# Altium footprint library Connector_Wire.PcbLib: 290 footprints (part 15 of 19)
Each footprint in its own frame and in the unit in brackets; x right, y up, seen from the top. Pads: shape width x height; smd on the part's side, far side on the other; paste and mask are expansions set on the pad; w line width, h text height; cw(c..) or ccw(c..) is an arc to the next point about the centre after c.
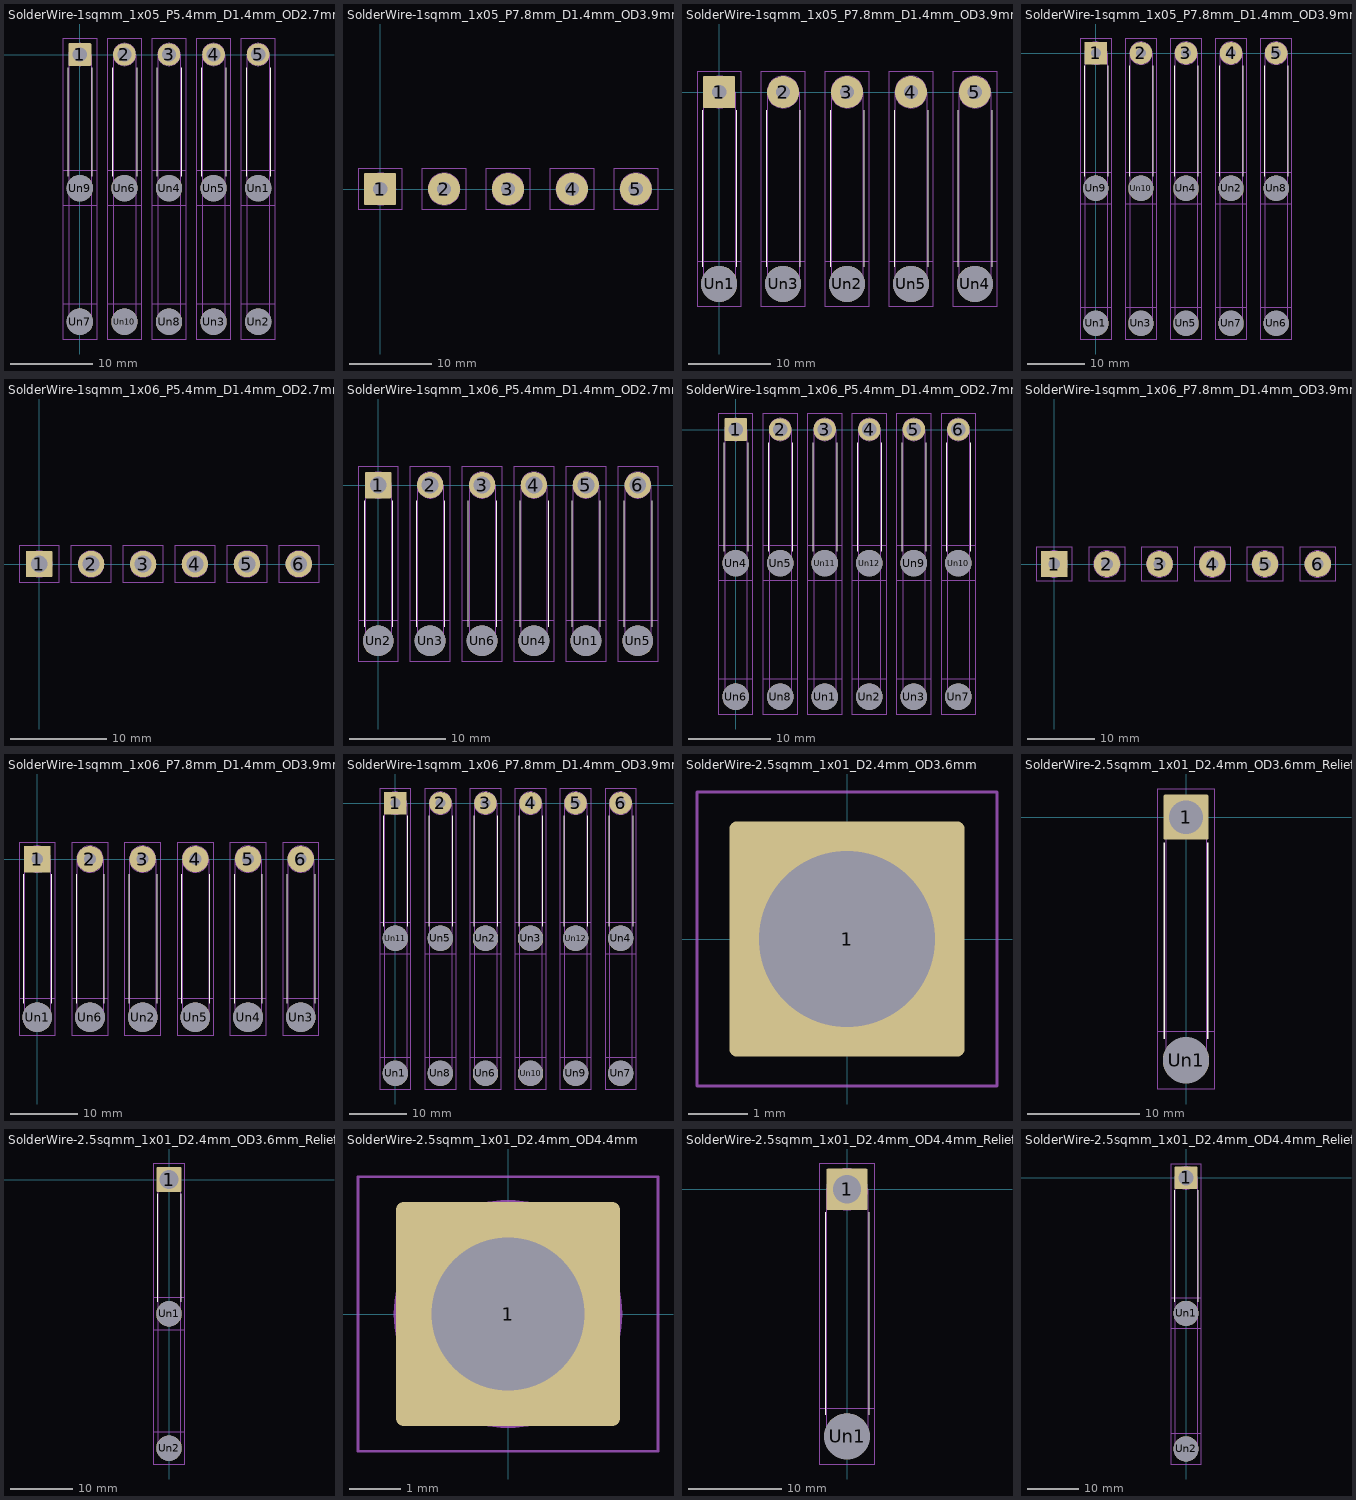
[diagram p14: the footprints below, top view; thin cyan lines are the x and y axes]

## SolderWire-1sqmm_1x05_P5.4mm_D1.4mm_OD2.7mm_Relief2x [mm]
pads (15):
  rrect9% 2.75x2.75 hole 1.75: 1(0,0)
  round 2.75 hole 1.75: 2(5.4,0) 3(10.8,0) 4(16.2,0) 5(21.6,0)
  round 3.2 hole 3.2: Un1(21.6,-16.2) Un2(21.6,-32.4) Un3(16.2,-32.4) Un4(10.8,-16.2) Un5(16.2,-16.2) Un6(5.4,-16.2) Un7(0,-32.4) Un8(10.8,-32.4) Un9(0,-16.2) Un10(5.4,-32.4)
F.SilkS:
  lines w0.12: -1.46,-14.74 -1.46,-1.635 ; 1.46,-14.74 1.46,-1.635 ; 3.94,-14.74 3.94,-1.635 ; 6.86,-14.74 6.86,-1.635 ; 9.34,-14.74 9.34,-1.635 ; 12.26,-14.74 12.26,-1.635 ; 14.74,-14.74 14.74,-1.635 ; 17.66,-14.74 17.66,-1.635 ; 20.14,-14.74 20.14,-1.635 ; 23.06,-14.74 23.06,-1.635
B.SilkS:
  lines w0.12: -1.46,-30.94 -1.46,-17.66 ; 1.46,-30.94 1.46,-17.66 ; 3.94,-30.94 3.94,-17.66 ; 6.86,-30.94 6.86,-17.66 ; 9.34,-30.94 9.34,-17.66 ; 12.26,-30.94 12.26,-17.66 ; 14.74,-30.94 14.74,-17.66 ; 17.66,-30.94 17.66,-17.66 ; 20.14,-30.94 20.14,-17.66 ; 23.06,-30.94 23.06,-17.66
B.CrtYd:
  lines w0.05: -2.1,-34.5 2.1,-34.5 2.1,-14.1 -2.1,-14.1 -2.1,-34.5 ; 3.3,-34.5 7.5,-34.5 7.5,-14.1 3.3,-14.1 3.3,-34.5 ; 8.7,-34.5 12.9,-34.5 12.9,-14.1 8.7,-14.1 8.7,-34.5 ; 14.1,-34.5 18.3,-34.5 18.3,-14.1 14.1,-14.1 14.1,-34.5 ; 19.5,-34.5 19.5,-14.1 23.7,-14.1 23.7,-34.5 19.5,-34.5
F.CrtYd:
  lines w0.05: -2.1,-34.5 -2.1,-30.3 2.1,-30.3 2.1,-34.5 -2.1,-34.5 ; -2.1,-18.3 -2.1,1.88 2.1,1.88 2.1,-18.3 -2.1,-18.3 ; 3.3,-34.5 3.3,-30.3 7.5,-30.3 7.5,-34.5 3.3,-34.5 ; 3.3,-18.3 7.5,-18.3 7.5,1.88 3.3,1.88 3.3,-18.3 ; 8.7,-34.5 12.9,-34.5 12.9,-30.3 8.7,-30.3 8.7,-34.5 ; 8.7,-18.3 8.7,1.88 12.9,1.88 12.9,-18.3 8.7,-18.3 ; 14.1,-34.5 14.1,-30.3 18.3,-30.3 18.3,-34.5 14.1,-34.5 ; 14.1,-18.3 14.1,1.88 18.3,1.88 18.3,-18.3 14.1,-18.3 ; 19.5,-34.5 19.5,-30.3 23.7,-30.3 23.7,-34.5 19.5,-34.5 ; 19.5,-18.3 23.7,-18.3 23.7,1.88 19.5,1.88 19.5,-18.3
B.Fab:
  circle w0.1: c10.8,-16.2 r1.35
  circle w0.1: c21.6,-16.2 r1.35
  circle w0.1: c16.2,-16.2 r1.35
  circle w0.1: c10.8,-32.4 r1.35
  circle w0.1: c5.4,-16.2 r1.35
  circle w0.1: c21.6,-32.4 r1.35
  circle w0.1: c5.4,-32.4 r1.35
  circle w0.1: c16.2,-32.4 r1.35
  circle w0.1: c0,-32.4 r1.35
  circle w0.1: c0,-16.2 r1.35
  lines w0.1: -1.35,-32.4 -1.35,-16.2 ; 1.35,-32.4 1.35,-16.2 ; 4.05,-32.4 4.05,-16.2 ; 6.75,-32.4 6.75,-16.2 ; 9.45,-32.4 9.45,-16.2 ; 12.15,-32.4 12.15,-16.2 ; 14.85,-32.4 14.85,-16.2 ; 17.55,-32.4 17.55,-16.2 ; 20.25,-32.4 20.25,-16.2 ; 22.95,-32.4 22.95,-16.2
F.Fab:
  circle w0.1: c5.4,-32.4 r1.35
  circle w0.1: c5.4,-16.2 r1.35
  circle w0.1: c0,-16.2 r1.35
  circle w0.1: c21.6,-16.2 r1.35
  circle w0.1: c5.4,0 r1.35
  circle w0.1: c10.8,-32.4 r1.35
  circle w0.1: c0,0 r1.35
  circle w0.1: c10.8,-16.2 r1.35
  circle w0.1: c16.2,0 r1.35
  circle w0.1: c16.2,-16.2 r1.35
  circle w0.1: c16.2,-32.4 r1.35
  circle w0.1: c21.6,-32.4 r1.35
  circle w0.1: c21.6,0 r1.35
  circle w0.1: c0,-32.4 r1.35
  circle w0.1: c10.8,0 r1.35
  lines w0.1: -1.35,-16.2 -1.35,0 ; 1.35,-16.2 1.35,0 ; 4.05,-16.2 4.05,0 ; 6.75,-16.2 6.75,0 ; 9.45,-16.2 9.45,0 ; 12.15,-16.2 12.15,0 ; 14.85,-16.2 14.85,0 ; 17.55,-16.2 17.55,0 ; 20.25,-16.2 20.25,0 ; 22.95,-16.2 22.95,0
  text "'.Designator'" at 11.64,-12.147 h1

## SolderWire-1sqmm_1x05_P7.8mm_D1.4mm_OD3.9mm [mm]
pads (5):
  rrect6% 3.9x3.9 hole 1.75: 1(0,0)
  round 3.9 hole 1.75: 2(7.8,0) 3(15.6,0) 4(23.4,0) 5(31.2,0)
F.CrtYd:
  lines w0.05: -2.7,-2.45 2.7,-2.45 2.7,2.45 -2.7,2.45 -2.7,-2.45 ; 5.1,-2.45 10.5,-2.45 10.5,2.45 5.1,2.45 5.1,-2.45 ; 12.9,-2.45 18.3,-2.45 18.3,2.45 12.9,2.45 12.9,-2.45 ; 20.7,-2.45 20.7,2.45 26.1,2.45 26.1,-2.45 20.7,-2.45 ; 28.5,-2.45 28.5,2.45 33.9,2.45 33.9,-2.45 28.5,-2.45
F.Fab:
  circle w0.1: c31.2,0 r1.95
  circle w0.1: c15.6,0 r1.95
  circle w0.1: c7.8,0 r1.95
  circle w0.1: c23.4,0 r1.95
  circle w0.1: c0,0 r1.95
  text "'.Designator'" at 11.631,-0.827 h0.98

## SolderWire-1sqmm_1x05_P7.8mm_D1.4mm_OD3.9mm_Relief [mm]
pads (10):
  rrect6% 3.9x3.9 hole 1.75: 1(0,0)
  round 3.9 hole 1.75: 2(7.8,0) 3(15.6,0) 4(23.4,0) 5(31.2,0)
  round 4.4 hole 4.4: Un1(0,-23.4) Un2(15.6,-23.4) Un3(7.8,-23.4) Un4(31.2,-23.4) Un5(23.4,-23.4)
F.SilkS:
  lines w0.12: -2.06,-21.34 -2.06,-2.21 ; 2.06,-21.34 2.06,-2.21 ; 5.74,-21.34 5.74,-2.21 ; 9.86,-21.34 9.86,-2.21 ; 13.54,-21.34 13.54,-2.21 ; 17.66,-21.34 17.66,-2.21 ; 21.34,-21.34 21.34,-2.21 ; 25.46,-21.34 25.46,-2.21 ; 29.14,-21.34 29.14,-2.21 ; 33.26,-21.34 33.26,-2.21
B.CrtYd:
  lines w0.05: -2.7,-26.1 -2.7,-20.7 2.7,-20.7 2.7,-26.1 -2.7,-26.1 ; 5.1,-26.1 5.1,-20.7 10.5,-20.7 10.5,-26.1 5.1,-26.1 ; 12.9,-26.1 12.9,-20.7 18.3,-20.7 18.3,-26.1 12.9,-26.1 ; 20.7,-26.1 26.1,-26.1 26.1,-20.7 20.7,-20.7 20.7,-26.1 ; 28.5,-26.1 28.5,-20.7 33.9,-20.7 33.9,-26.1 28.5,-26.1
F.CrtYd:
  lines w0.05: -2.7,-26.1 -2.7,2.45 2.7,2.45 2.7,-26.1 -2.7,-26.1 ; 5.1,-26.1 10.5,-26.1 10.5,2.45 5.1,2.45 5.1,-26.1 ; 12.9,-26.1 12.9,2.45 18.3,2.45 18.3,-26.1 12.9,-26.1 ; 20.7,-26.1 20.7,2.45 26.1,2.45 26.1,-26.1 20.7,-26.1 ; 28.5,-26.1 33.9,-26.1 33.9,2.45 28.5,2.45 28.5,-26.1
F.Fab:
  circle w0.1: c31.2,0 r1.95
  circle w0.1: c23.4,-23.4 r1.95
  circle w0.1: c31.2,-23.4 r1.95
  circle w0.1: c0,0 r1.95
  circle w0.1: c7.8,0 r1.95
  circle w0.1: c0,-23.4 r1.95
  circle w0.1: c7.8,-23.4 r1.95
  circle w0.1: c23.4,0 r1.95
  circle w0.1: c15.6,-23.4 r1.95
  circle w0.1: c15.6,0 r1.95
  lines w0.1: -1.95,-23.4 -1.95,0 ; 1.95,-23.4 1.95,0 ; 5.85,-23.4 5.85,0 ; 9.75,-23.4 9.75,0 ; 13.65,-23.4 13.65,0 ; 17.55,-23.4 17.55,0 ; 21.45,-23.4 21.45,0 ; 25.35,-23.4 25.35,0 ; 29.25,-23.4 29.25,0 ; 33.15,-23.4 33.15,0
  text "'.Designator'" at 16.44,-15.747 h1

## SolderWire-1sqmm_1x05_P7.8mm_D1.4mm_OD3.9mm_Relief2x [mm]
pads (15):
  rrect6% 3.9x3.9 hole 1.75: 1(0,0)
  round 3.9 hole 1.75: 2(7.8,0) 3(15.6,0) 4(23.4,0) 5(31.2,0)
  round 4.4 hole 4.4: Un1(0,-46.8) Un2(23.4,-23.4) Un3(7.8,-46.8) Un4(15.6,-23.4) Un5(15.6,-46.8) Un6(31.2,-46.8) Un7(23.4,-46.8) Un8(31.2,-23.4) Un9(0,-23.4) Un10(7.8,-23.4)
F.SilkS:
  lines w0.12: -2.06,-21.34 -2.06,-2.21 ; 2.06,-21.34 2.06,-2.21 ; 5.74,-21.34 5.74,-2.21 ; 9.86,-21.34 9.86,-2.21 ; 13.54,-21.34 13.54,-2.21 ; 17.66,-21.34 17.66,-2.21 ; 21.34,-21.34 21.34,-2.21 ; 25.46,-21.34 25.46,-2.21 ; 29.14,-21.34 29.14,-2.21 ; 33.26,-21.34 33.26,-2.21
B.SilkS:
  lines w0.12: -2.06,-44.74 -2.06,-25.46 ; 2.06,-44.74 2.06,-25.46 ; 5.74,-44.74 5.74,-25.46 ; 9.86,-44.74 9.86,-25.46 ; 13.54,-44.74 13.54,-25.46 ; 17.66,-44.74 17.66,-25.46 ; 21.34,-44.74 21.34,-25.46 ; 25.46,-44.74 25.46,-25.46 ; 29.14,-44.74 29.14,-25.46 ; 33.26,-44.74 33.26,-25.46
B.CrtYd:
  lines w0.05: -2.7,-49.5 -2.7,-20.7 2.7,-20.7 2.7,-49.5 -2.7,-49.5 ; 5.1,-49.5 10.5,-49.5 10.5,-20.7 5.1,-20.7 5.1,-49.5 ; 12.9,-49.5 18.3,-49.5 18.3,-20.7 12.9,-20.7 12.9,-49.5 ; 20.7,-49.5 20.7,-20.7 26.1,-20.7 26.1,-49.5 20.7,-49.5 ; 28.5,-49.5 28.5,-20.7 33.9,-20.7 33.9,-49.5 28.5,-49.5
F.CrtYd:
  lines w0.05: -2.7,-49.5 -2.7,-44.1 2.7,-44.1 2.7,-49.5 -2.7,-49.5 ; -2.7,-26.1 2.7,-26.1 2.7,2.45 -2.7,2.45 -2.7,-26.1 ; 5.1,-49.5 5.1,-44.1 10.5,-44.1 10.5,-49.5 5.1,-49.5 ; 5.1,-26.1 10.5,-26.1 10.5,2.45 5.1,2.45 5.1,-26.1 ; 12.9,-49.5 12.9,-44.1 18.3,-44.1 18.3,-49.5 12.9,-49.5 ; 12.9,-26.1 18.3,-26.1 18.3,2.45 12.9,2.45 12.9,-26.1 ; 20.7,-49.5 26.1,-49.5 26.1,-44.1 20.7,-44.1 20.7,-49.5 ; 20.7,-26.1 20.7,2.45 26.1,2.45 26.1,-26.1 20.7,-26.1 ; 28.5,-49.5 28.5,-44.1 33.9,-44.1 33.9,-49.5 28.5,-49.5 ; 28.5,-26.1 33.9,-26.1 33.9,2.45 28.5,2.45 28.5,-26.1
B.Fab:
  circle w0.1: c7.8,-23.4 r1.95
  circle w0.1: c23.4,-46.8 r1.95
  circle w0.1: c15.6,-46.8 r1.95
  circle w0.1: c0,-46.8 r1.95
  circle w0.1: c23.4,-23.4 r1.95
  circle w0.1: c31.2,-46.8 r1.95
  circle w0.1: c31.2,-23.4 r1.95
  circle w0.1: c15.6,-23.4 r1.95
  circle w0.1: c0,-23.4 r1.95
  circle w0.1: c7.8,-46.8 r1.95
  lines w0.1: -1.95,-46.8 -1.95,-23.4 ; 1.95,-46.8 1.95,-23.4 ; 5.85,-46.8 5.85,-23.4 ; 9.75,-46.8 9.75,-23.4 ; 13.65,-46.8 13.65,-23.4 ; 17.55,-46.8 17.55,-23.4 ; 21.45,-46.8 21.45,-23.4 ; 25.35,-46.8 25.35,-23.4 ; 29.25,-46.8 29.25,-23.4 ; 33.15,-46.8 33.15,-23.4
F.Fab:
  circle w0.1: c7.8,-23.4 r1.95
  circle w0.1: c7.8,-46.8 r1.95
  circle w0.1: c0,-46.8 r1.95
  circle w0.1: c7.8,0 r1.95
  circle w0.1: c23.4,-46.8 r1.95
  circle w0.1: c0,-23.4 r1.95
  circle w0.1: c15.6,-23.4 r1.95
  circle w0.1: c23.4,-23.4 r1.95
  circle w0.1: c23.4,0 r1.95
  circle w0.1: c15.6,-46.8 r1.95
  circle w0.1: c31.2,-46.8 r1.95
  circle w0.1: c31.2,0 r1.95
  circle w0.1: c31.2,-23.4 r1.95
  circle w0.1: c15.6,0 r1.95
  circle w0.1: c0,0 r1.95
  lines w0.1: -1.95,-23.4 -1.95,0 ; 1.95,-23.4 1.95,0 ; 5.85,-23.4 5.85,0 ; 9.75,-23.4 9.75,0 ; 13.65,-23.4 13.65,0 ; 17.55,-23.4 17.55,0 ; 21.45,-23.4 21.45,0 ; 25.35,-23.4 25.35,0 ; 29.25,-23.4 29.25,0 ; 33.15,-23.4 33.15,0
  text "'.Designator'" at 16.44,-15.747 h1

## SolderWire-1sqmm_1x06_P5.4mm_D1.4mm_OD2.7mm [mm]
pads (6):
  rrect9% 2.75x2.75 hole 1.75: 1(0,0)
  round 2.75 hole 1.75: 2(5.4,0) 3(10.8,0) 4(16.2,0) 5(21.6,0) 6(27,0)
F.CrtYd:
  lines w0.05: -2.1,-1.88 2.1,-1.88 2.1,1.88 -2.1,1.88 -2.1,-1.88 ; 3.3,-1.88 7.5,-1.88 7.5,1.88 3.3,1.88 3.3,-1.88 ; 8.7,-1.88 8.7,1.88 12.9,1.88 12.9,-1.88 8.7,-1.88 ; 14.1,-1.88 14.1,1.88 18.3,1.88 18.3,-1.88 14.1,-1.88 ; 19.5,-1.88 23.7,-1.88 23.7,1.88 19.5,1.88 19.5,-1.88 ; 24.9,-1.88 24.9,1.88 29.1,1.88 29.1,-1.88 24.9,-1.88
F.Fab:
  circle w0.1: c27,0 r1.35
  circle w0.1: c21.6,0 r1.35
  circle w0.1: c0,0 r1.35
  circle w0.1: c16.2,0 r1.35
  circle w0.1: c5.4,0 r1.35
  circle w0.1: c10.8,0 r1.35
  text "'.Designator'" at 14.289,-3.803 h0.94

## SolderWire-1sqmm_1x06_P5.4mm_D1.4mm_OD2.7mm_Relief [mm]
pads (12):
  rrect9% 2.75x2.75 hole 1.75: 1(0,0)
  round 2.75 hole 1.75: 2(5.4,0) 3(10.8,0) 4(16.2,0) 5(21.6,0) 6(27,0)
  round 3.2 hole 3.2: Un1(21.6,-16.2) Un2(0,-16.2) Un3(5.4,-16.2) Un4(16.2,-16.2) Un5(27,-16.2) Un6(10.8,-16.2)
F.SilkS:
  lines w0.12: -1.46,-14.74 -1.46,-1.635 ; 1.46,-14.74 1.46,-1.635 ; 3.94,-14.74 3.94,-1.635 ; 6.86,-14.74 6.86,-1.635 ; 9.34,-14.74 9.34,-1.635 ; 12.26,-14.74 12.26,-1.635 ; 14.74,-14.74 14.74,-1.635 ; 17.66,-14.74 17.66,-1.635 ; 20.14,-14.74 20.14,-1.635 ; 23.06,-14.74 23.06,-1.635 ; 25.54,-14.74 25.54,-1.635 ; 28.46,-14.74 28.46,-1.635
B.CrtYd:
  lines w0.05: -2.1,-18.3 2.1,-18.3 2.1,-14.1 -2.1,-14.1 -2.1,-18.3 ; 3.3,-18.3 7.5,-18.3 7.5,-14.1 3.3,-14.1 3.3,-18.3 ; 8.7,-18.3 12.9,-18.3 12.9,-14.1 8.7,-14.1 8.7,-18.3 ; 14.1,-18.3 14.1,-14.1 18.3,-14.1 18.3,-18.3 14.1,-18.3 ; 19.5,-18.3 23.7,-18.3 23.7,-14.1 19.5,-14.1 19.5,-18.3 ; 24.9,-18.3 24.9,-14.1 29.1,-14.1 29.1,-18.3 24.9,-18.3
F.CrtYd:
  lines w0.05: -2.1,-18.3 -2.1,1.88 2.1,1.88 2.1,-18.3 -2.1,-18.3 ; 3.3,-18.3 3.3,1.88 7.5,1.88 7.5,-18.3 3.3,-18.3 ; 8.7,-18.3 8.7,1.88 12.9,1.88 12.9,-18.3 8.7,-18.3 ; 14.1,-18.3 18.3,-18.3 18.3,1.88 14.1,1.88 14.1,-18.3 ; 19.5,-18.3 23.7,-18.3 23.7,1.88 19.5,1.88 19.5,-18.3 ; 24.9,-18.3 29.1,-18.3 29.1,1.88 24.9,1.88 24.9,-18.3
F.Fab:
  circle w0.1: c16.2,-16.2 r1.35
  circle w0.1: c0,-16.2 r1.35
  circle w0.1: c5.4,0 r1.35
  circle w0.1: c10.8,0 r1.35
  circle w0.1: c27,-16.2 r1.35
  circle w0.1: c10.8,-16.2 r1.35
  circle w0.1: c21.6,0 r1.35
  circle w0.1: c16.2,0 r1.35
  circle w0.1: c21.6,-16.2 r1.35
  circle w0.1: c27,0 r1.35
  circle w0.1: c0,0 r1.35
  circle w0.1: c5.4,-16.2 r1.35
  lines w0.1: -1.35,-16.2 -1.35,0 ; 1.35,-16.2 1.35,0 ; 4.05,-16.2 4.05,0 ; 6.75,-16.2 6.75,0 ; 9.45,-16.2 9.45,0 ; 12.15,-16.2 12.15,0 ; 14.85,-16.2 14.85,0 ; 17.55,-16.2 17.55,0 ; 20.25,-16.2 20.25,0 ; 22.95,-16.2 22.95,0 ; 25.65,-16.2 25.65,0 ; 28.35,-16.2 28.35,0
  text "'.Designator'" at 14.34,-12.147 h1

## SolderWire-1sqmm_1x06_P5.4mm_D1.4mm_OD2.7mm_Relief2x [mm]
pads (18):
  rrect9% 2.75x2.75 hole 1.75: 1(0,0)
  round 2.75 hole 1.75: 2(5.4,0) 3(10.8,0) 4(16.2,0) 5(21.6,0) 6(27,0)
  round 3.2 hole 3.2: Un1(10.8,-32.4) Un2(16.2,-32.4) Un3(21.6,-32.4) Un4(0,-16.2) Un5(5.4,-16.2) Un6(0,-32.4) Un7(27,-32.4) Un8(5.4,-32.4) Un9(21.6,-16.2) Un10(27,-16.2) Un11(10.8,-16.2) Un12(16.2,-16.2)
F.SilkS:
  lines w0.12: -1.46,-14.74 -1.46,-1.635 ; 1.46,-14.74 1.46,-1.635 ; 3.94,-14.74 3.94,-1.635 ; 6.86,-14.74 6.86,-1.635 ; 9.34,-14.74 9.34,-1.635 ; 12.26,-14.74 12.26,-1.635 ; 14.74,-14.74 14.74,-1.635 ; 17.66,-14.74 17.66,-1.635 ; 20.14,-14.74 20.14,-1.635 ; 23.06,-14.74 23.06,-1.635 ; 25.54,-14.74 25.54,-1.635 ; 28.46,-14.74 28.46,-1.635
B.SilkS:
  lines w0.12: -1.46,-30.94 -1.46,-17.66 ; 1.46,-30.94 1.46,-17.66 ; 3.94,-30.94 3.94,-17.66 ; 6.86,-30.94 6.86,-17.66 ; 9.34,-30.94 9.34,-17.66 ; 12.26,-30.94 12.26,-17.66 ; 14.74,-30.94 14.74,-17.66 ; 17.66,-30.94 17.66,-17.66 ; 20.14,-30.94 20.14,-17.66 ; 23.06,-30.94 23.06,-17.66 ; 25.54,-30.94 25.54,-17.66 ; 28.46,-30.94 28.46,-17.66
B.CrtYd:
  lines w0.05: -2.1,-34.5 -2.1,-14.1 2.1,-14.1 2.1,-34.5 -2.1,-34.5 ; 3.3,-34.5 7.5,-34.5 7.5,-14.1 3.3,-14.1 3.3,-34.5 ; 8.7,-34.5 12.9,-34.5 12.9,-14.1 8.7,-14.1 8.7,-34.5 ; 14.1,-34.5 18.3,-34.5 18.3,-14.1 14.1,-14.1 14.1,-34.5 ; 19.5,-34.5 23.7,-34.5 23.7,-14.1 19.5,-14.1 19.5,-34.5 ; 24.9,-34.5 29.1,-34.5 29.1,-14.1 24.9,-14.1 24.9,-34.5
F.CrtYd:
  lines w0.05: -2.1,-34.5 2.1,-34.5 2.1,-30.3 -2.1,-30.3 -2.1,-34.5 ; -2.1,-18.3 2.1,-18.3 2.1,1.88 -2.1,1.88 -2.1,-18.3 ; 3.3,-34.5 7.5,-34.5 7.5,-30.3 3.3,-30.3 3.3,-34.5 ; 3.3,-18.3 3.3,1.88 7.5,1.88 7.5,-18.3 3.3,-18.3 ; 8.7,-34.5 12.9,-34.5 12.9,-30.3 8.7,-30.3 8.7,-34.5 ; 8.7,-18.3 12.9,-18.3 12.9,1.88 8.7,1.88 8.7,-18.3 ; 14.1,-34.5 14.1,-30.3 18.3,-30.3 18.3,-34.5 14.1,-34.5 ; 14.1,-18.3 14.1,1.88 18.3,1.88 18.3,-18.3 14.1,-18.3 ; 19.5,-34.5 23.7,-34.5 23.7,-30.3 19.5,-30.3 19.5,-34.5 ; 19.5,-18.3 19.5,1.88 23.7,1.88 23.7,-18.3 19.5,-18.3 ; 24.9,-34.5 29.1,-34.5 29.1,-30.3 24.9,-30.3 24.9,-34.5 ; 24.9,-18.3 24.9,1.88 29.1,1.88 29.1,-18.3 24.9,-18.3
B.Fab:
  circle w0.1: c21.6,-32.4 r1.35
  circle w0.1: c5.4,-16.2 r1.35
  circle w0.1: c10.8,-16.2 r1.35
  circle w0.1: c5.4,-32.4 r1.35
  circle w0.1: c16.2,-16.2 r1.35
  circle w0.1: c27,-16.2 r1.35
  circle w0.1: c10.8,-32.4 r1.35
  circle w0.1: c21.6,-16.2 r1.35
  circle w0.1: c0,-32.4 r1.35
  circle w0.1: c0,-16.2 r1.35
  circle w0.1: c16.2,-32.4 r1.35
  circle w0.1: c27,-32.4 r1.35
  lines w0.1: -1.35,-32.4 -1.35,-16.2 ; 1.35,-32.4 1.35,-16.2 ; 4.05,-32.4 4.05,-16.2 ; 6.75,-32.4 6.75,-16.2 ; 9.45,-32.4 9.45,-16.2 ; 12.15,-32.4 12.15,-16.2 ; 14.85,-32.4 14.85,-16.2 ; 17.55,-32.4 17.55,-16.2 ; 20.25,-32.4 20.25,-16.2 ; 22.95,-32.4 22.95,-16.2 ; 25.65,-32.4 25.65,-16.2 ; 28.35,-32.4 28.35,-16.2
F.Fab:
  circle w0.1: c0,-32.4 r1.35
  circle w0.1: c21.6,-32.4 r1.35
  circle w0.1: c27,0 r1.35
  circle w0.1: c16.2,-32.4 r1.35
  circle w0.1: c0,0 r1.35
  circle w0.1: c5.4,-16.2 r1.35
  circle w0.1: c5.4,0 r1.35
  circle w0.1: c21.6,0 r1.35
  circle w0.1: c27,-32.4 r1.35
  circle w0.1: c0,-16.2 r1.35
  circle w0.1: c27,-16.2 r1.35
  circle w0.1: c5.4,-32.4 r1.35
  circle w0.1: c16.2,0 r1.35
  circle w0.1: c16.2,-16.2 r1.35
  circle w0.1: c10.8,0 r1.35
  circle w0.1: c10.8,-16.2 r1.35
  circle w0.1: c21.6,-16.2 r1.35
  circle w0.1: c10.8,-32.4 r1.35
  lines w0.1: -1.35,-16.2 -1.35,0 ; 1.35,-16.2 1.35,0 ; 4.05,-16.2 4.05,0 ; 6.75,-16.2 6.75,0 ; 9.45,-16.2 9.45,0 ; 12.15,-16.2 12.15,0 ; 14.85,-16.2 14.85,0 ; 17.55,-16.2 17.55,0 ; 20.25,-16.2 20.25,0 ; 22.95,-16.2 22.95,0 ; 25.65,-16.2 25.65,0 ; 28.35,-16.2 28.35,0
  text "'.Designator'" at 14.34,-12.147 h1

## SolderWire-1sqmm_1x06_P7.8mm_D1.4mm_OD3.9mm [mm]
pads (6):
  rrect6% 3.9x3.9 hole 1.75: 1(0,0)
  round 3.9 hole 1.75: 2(7.8,0) 3(15.6,0) 4(23.4,0) 5(31.2,0) 6(39,0)
F.CrtYd:
  lines w0.05: -2.7,-2.45 -2.7,2.45 2.7,2.45 2.7,-2.45 -2.7,-2.45 ; 5.1,-2.45 10.5,-2.45 10.5,2.45 5.1,2.45 5.1,-2.45 ; 12.9,-2.45 18.3,-2.45 18.3,2.45 12.9,2.45 12.9,-2.45 ; 20.7,-2.45 26.1,-2.45 26.1,2.45 20.7,2.45 20.7,-2.45 ; 28.5,-2.45 33.9,-2.45 33.9,2.45 28.5,2.45 28.5,-2.45 ; 36.3,-2.45 36.3,2.45 41.7,2.45 41.7,-2.45 36.3,-2.45
F.Fab:
  circle w0.1: c7.8,0 r1.95
  circle w0.1: c39,0 r1.95
  circle w0.1: c23.4,0 r1.95
  circle w0.1: c0,0 r1.95
  circle w0.1: c31.2,0 r1.95
  circle w0.1: c15.6,0 r1.95
  text "'.Designator'" at 20.34,-4.047 h1

## SolderWire-1sqmm_1x06_P7.8mm_D1.4mm_OD3.9mm_Relief [mm]
pads (12):
  rrect6% 3.9x3.9 hole 1.75: 1(0,0)
  round 3.9 hole 1.75: 2(7.8,0) 3(15.6,0) 4(23.4,0) 5(31.2,0) 6(39,0)
  round 4.4 hole 4.4: Un1(0,-23.4) Un2(15.6,-23.4) Un3(39,-23.4) Un4(31.2,-23.4) Un5(23.4,-23.4) Un6(7.8,-23.4)
F.SilkS:
  lines w0.12: -2.06,-21.34 -2.06,-2.21 ; 2.06,-21.34 2.06,-2.21 ; 5.74,-21.34 5.74,-2.21 ; 9.86,-21.34 9.86,-2.21 ; 13.54,-21.34 13.54,-2.21 ; 17.66,-21.34 17.66,-2.21 ; 21.34,-21.34 21.34,-2.21 ; 25.46,-21.34 25.46,-2.21 ; 29.14,-21.34 29.14,-2.21 ; 33.26,-21.34 33.26,-2.21 ; 36.94,-21.34 36.94,-2.21 ; 41.06,-21.34 41.06,-2.21
B.CrtYd:
  lines w0.05: -2.7,-26.1 -2.7,-20.7 2.7,-20.7 2.7,-26.1 -2.7,-26.1 ; 5.1,-26.1 10.5,-26.1 10.5,-20.7 5.1,-20.7 5.1,-26.1 ; 12.9,-26.1 12.9,-20.7 18.3,-20.7 18.3,-26.1 12.9,-26.1 ; 20.7,-26.1 20.7,-20.7 26.1,-20.7 26.1,-26.1 20.7,-26.1 ; 28.5,-26.1 28.5,-20.7 33.9,-20.7 33.9,-26.1 28.5,-26.1 ; 36.3,-26.1 41.7,-26.1 41.7,-20.7 36.3,-20.7 36.3,-26.1
F.CrtYd:
  lines w0.05: -2.7,-26.1 -2.7,2.45 2.7,2.45 2.7,-26.1 -2.7,-26.1 ; 5.1,-26.1 10.5,-26.1 10.5,2.45 5.1,2.45 5.1,-26.1 ; 12.9,-26.1 12.9,2.45 18.3,2.45 18.3,-26.1 12.9,-26.1 ; 20.7,-26.1 26.1,-26.1 26.1,2.45 20.7,2.45 20.7,-26.1 ; 28.5,-26.1 33.9,-26.1 33.9,2.45 28.5,2.45 28.5,-26.1 ; 36.3,-26.1 36.3,2.45 41.7,2.45 41.7,-26.1 36.3,-26.1
F.Fab:
  circle w0.1: c15.6,-23.4 r1.95
  circle w0.1: c31.2,-23.4 r1.95
  circle w0.1: c7.8,-23.4 r1.95
  circle w0.1: c23.4,-23.4 r1.95
  circle w0.1: c0,-23.4 r1.95
  circle w0.1: c31.2,0 r1.95
  circle w0.1: c39,-23.4 r1.95
  circle w0.1: c15.6,0 r1.95
  circle w0.1: c39,0 r1.95
  circle w0.1: c7.8,0 r1.95
  circle w0.1: c0,0 r1.95
  circle w0.1: c23.4,0 r1.95
  lines w0.1: -1.95,-23.4 -1.95,0 ; 1.95,-23.4 1.95,0 ; 5.85,-23.4 5.85,0 ; 9.75,-23.4 9.75,0 ; 13.65,-23.4 13.65,0 ; 17.55,-23.4 17.55,0 ; 21.45,-23.4 21.45,0 ; 25.35,-23.4 25.35,0 ; 29.25,-23.4 29.25,0 ; 33.15,-23.4 33.15,0 ; 37.05,-23.4 37.05,0 ; 40.95,-23.4 40.95,0
  text "'.Designator'" at 20.34,-15.747 h1

## SolderWire-1sqmm_1x06_P7.8mm_D1.4mm_OD3.9mm_Relief2x [mm]
pads (18):
  rrect6% 3.9x3.9 hole 1.75: 1(0,0)
  round 3.9 hole 1.75: 2(7.8,0) 3(15.6,0) 4(23.4,0) 5(31.2,0) 6(39,0)
  round 4.4 hole 4.4: Un1(0,-46.8) Un2(15.6,-23.4) Un3(23.4,-23.4) Un4(39,-23.4) Un5(7.8,-23.4) Un6(15.6,-46.8) Un7(39,-46.8) Un8(7.8,-46.8) Un9(31.2,-46.8) Un10(23.4,-46.8) Un11(0,-23.4) Un12(31.2,-23.4)
F.SilkS:
  lines w0.12: -2.06,-21.34 -2.06,-2.21 ; 2.06,-21.34 2.06,-2.21 ; 5.74,-21.34 5.74,-2.21 ; 9.86,-21.34 9.86,-2.21 ; 13.54,-21.34 13.54,-2.21 ; 17.66,-21.34 17.66,-2.21 ; 21.34,-21.34 21.34,-2.21 ; 25.46,-21.34 25.46,-2.21 ; 29.14,-21.34 29.14,-2.21 ; 33.26,-21.34 33.26,-2.21 ; 36.94,-21.34 36.94,-2.21 ; 41.06,-21.34 41.06,-2.21
B.SilkS:
  lines w0.12: -2.06,-44.74 -2.06,-25.46 ; 2.06,-44.74 2.06,-25.46 ; 5.74,-44.74 5.74,-25.46 ; 9.86,-44.74 9.86,-25.46 ; 13.54,-44.74 13.54,-25.46 ; 17.66,-44.74 17.66,-25.46 ; 21.34,-44.74 21.34,-25.46 ; 25.46,-44.74 25.46,-25.46 ; 29.14,-44.74 29.14,-25.46 ; 33.26,-44.74 33.26,-25.46 ; 36.94,-44.74 36.94,-25.46 ; 41.06,-44.74 41.06,-25.46
B.CrtYd:
  lines w0.05: -2.7,-49.5 2.7,-49.5 2.7,-20.7 -2.7,-20.7 -2.7,-49.5 ; 5.1,-49.5 5.1,-20.7 10.5,-20.7 10.5,-49.5 5.1,-49.5 ; 12.9,-49.5 12.9,-20.7 18.3,-20.7 18.3,-49.5 12.9,-49.5 ; 20.7,-49.5 26.1,-49.5 26.1,-20.7 20.7,-20.7 20.7,-49.5 ; 28.5,-49.5 33.9,-49.5 33.9,-20.7 28.5,-20.7 28.5,-49.5 ; 36.3,-49.5 36.3,-20.7 41.7,-20.7 41.7,-49.5 36.3,-49.5
F.CrtYd:
  lines w0.05: -2.7,-49.5 2.7,-49.5 2.7,-44.1 -2.7,-44.1 -2.7,-49.5 ; -2.7,-26.1 2.7,-26.1 2.7,2.45 -2.7,2.45 -2.7,-26.1 ; 5.1,-49.5 5.1,-44.1 10.5,-44.1 10.5,-49.5 5.1,-49.5 ; 5.1,-26.1 10.5,-26.1 10.5,2.45 5.1,2.45 5.1,-26.1 ; 12.9,-49.5 18.3,-49.5 18.3,-44.1 12.9,-44.1 12.9,-49.5 ; 12.9,-26.1 18.3,-26.1 18.3,2.45 12.9,2.45 12.9,-26.1 ; 20.7,-49.5 20.7,-44.1 26.1,-44.1 26.1,-49.5 20.7,-49.5 ; 20.7,-26.1 20.7,2.45 26.1,2.45 26.1,-26.1 20.7,-26.1 ; 28.5,-49.5 33.9,-49.5 33.9,-44.1 28.5,-44.1 28.5,-49.5 ; 28.5,-26.1 28.5,2.45 33.9,2.45 33.9,-26.1 28.5,-26.1 ; 36.3,-49.5 41.7,-49.5 41.7,-44.1 36.3,-44.1 36.3,-49.5 ; 36.3,-26.1 41.7,-26.1 41.7,2.45 36.3,2.45 36.3,-26.1
B.Fab:
  circle w0.1: c31.2,-46.8 r1.95
  circle w0.1: c23.4,-23.4 r1.95
  circle w0.1: c23.4,-46.8 r1.95
  circle w0.1: c7.8,-46.8 r1.95
  circle w0.1: c7.8,-23.4 r1.95
  circle w0.1: c31.2,-23.4 r1.95
  circle w0.1: c39,-23.4 r1.95
  circle w0.1: c15.6,-46.8 r1.95
  circle w0.1: c15.6,-23.4 r1.95
  circle w0.1: c0,-23.4 r1.95
  circle w0.1: c39,-46.8 r1.95
  circle w0.1: c0,-46.8 r1.95
  lines w0.1: -1.95,-46.8 -1.95,-23.4 ; 1.95,-46.8 1.95,-23.4 ; 5.85,-46.8 5.85,-23.4 ; 9.75,-46.8 9.75,-23.4 ; 13.65,-46.8 13.65,-23.4 ; 17.55,-46.8 17.55,-23.4 ; 21.45,-46.8 21.45,-23.4 ; 25.35,-46.8 25.35,-23.4 ; 29.25,-46.8 29.25,-23.4 ; 33.15,-46.8 33.15,-23.4 ; 37.05,-46.8 37.05,-23.4 ; 40.95,-46.8 40.95,-23.4
F.Fab:
  circle w0.1: c39,-46.8 r1.95
  circle w0.1: c0,0 r1.95
  circle w0.1: c0,-23.4 r1.95
  circle w0.1: c39,-23.4 r1.95
  circle w0.1: c15.6,-46.8 r1.95
  circle w0.1: c39,0 r1.95
  circle w0.1: c0,-46.8 r1.95
  circle w0.1: c31.2,0 r1.95
  circle w0.1: c23.4,-23.4 r1.95
  circle w0.1: c15.6,-23.4 r1.95
  circle w0.1: c23.4,-46.8 r1.95
  circle w0.1: c7.8,-46.8 r1.95
  circle w0.1: c7.8,-23.4 r1.95
  circle w0.1: c31.2,-23.4 r1.95
  circle w0.1: c31.2,-46.8 r1.95
  circle w0.1: c7.8,0 r1.95
  circle w0.1: c23.4,0 r1.95
  circle w0.1: c15.6,0 r1.95
  lines w0.1: -1.95,-23.4 -1.95,0 ; 1.95,-23.4 1.95,0 ; 5.85,-23.4 5.85,0 ; 9.75,-23.4 9.75,0 ; 13.65,-23.4 13.65,0 ; 17.55,-23.4 17.55,0 ; 21.45,-23.4 21.45,0 ; 25.35,-23.4 25.35,0 ; 29.25,-23.4 29.25,0 ; 33.15,-23.4 33.15,0 ; 37.05,-23.4 37.05,0 ; 40.95,-23.4 40.95,0
  text "'.Designator'" at 20.34,-15.747 h1

## SolderWire-2.5sqmm_1x01_D2.4mm_OD3.6mm [mm]
pads (1):
  rrect6% 4x4 hole 3: 1(0,0)
F.CrtYd:
  lines w0.05: -2.55,-2.5 -2.55,2.5 2.55,2.5 2.55,-2.5 -2.55,-2.5
F.Fab:
  circle w0.1: c0,0 r1.8
  text "'.Designator'" at -3.647,-0.761 h0.9

## SolderWire-2.5sqmm_1x01_D2.4mm_OD3.6mm_Relief [mm]
pads (2):
  rrect6% 4x4 hole 3: 1(0,0)
  round 4.1 hole 4.1: Un1(0,-21.6)
F.SilkS:
  lines w0.12: -1.91,-19.69 -1.91,-2.26 ; 1.91,-19.69 1.91,-2.26
B.CrtYd:
  lines w0.05: -2.55,-24.15 -2.55,-19.05 2.55,-19.05 2.55,-24.15 -2.55,-24.15
F.CrtYd:
  lines w0.05: -2.55,-24.15 -2.55,2.5 2.55,2.5 2.55,-24.15 -2.55,-24.15
F.Fab:
  circle w0.1: c0,-21.6 r1.8
  circle w0.1: c0,0 r1.8
  lines w0.1: -1.8,-21.6 -1.8,0 ; 1.8,-21.6 1.8,0
  text "'.Designator'" at 0.84,-14.847 h1

## SolderWire-2.5sqmm_1x01_D2.4mm_OD3.6mm_Relief2x [mm]
pads (3):
  rrect6% 4x4 hole 3: 1(0,0)
  round 4.1 hole 4.1: Un1(0,-21.6) Un2(0,-43.2)
F.SilkS:
  lines w0.12: -1.91,-19.69 -1.91,-2.26 ; 1.91,-19.69 1.91,-2.26
B.SilkS:
  lines w0.12: -1.91,-41.29 -1.91,-23.51 ; 1.91,-41.29 1.91,-23.51
B.CrtYd:
  lines w0.05: -2.55,-45.75 -2.55,-19.05 2.55,-19.05 2.55,-45.75 -2.55,-45.75
F.CrtYd:
  lines w0.05: -2.55,-45.75 2.55,-45.75 2.55,-40.65 -2.55,-40.65 -2.55,-45.75 ; -2.55,-24.15 2.55,-24.15 2.55,2.5 -2.55,2.5 -2.55,-24.15
B.Fab:
  circle w0.1: c0,-21.6 r1.8
  circle w0.1: c0,-43.2 r1.8
  lines w0.1: -1.8,-43.2 -1.8,-21.6 ; 1.8,-43.2 1.8,-21.6
F.Fab:
  circle w0.1: c0,-21.6 r1.8
  circle w0.1: c0,0 r1.8
  circle w0.1: c0,-43.2 r1.8
  lines w0.1: -1.8,-21.6 -1.8,0 ; 1.8,-21.6 1.8,0
  text "'.Designator'" at 0.84,-14.847 h1

## SolderWire-2.5sqmm_1x01_D2.4mm_OD4.4mm [mm]
pads (1):
  rrect6% 4.4x4.4 hole 3: 1(0,0)
F.CrtYd:
  lines w0.05: -2.95,-2.7 -2.95,2.7 2.95,2.7 2.95,-2.7 -2.95,-2.7
F.Fab:
  circle w0.1: c0,0 r2.2
  text "'.Designator'" at -4.047,-0.84 h1

## SolderWire-2.5sqmm_1x01_D2.4mm_OD4.4mm_Relief [mm]
pads (2):
  rrect6% 4.4x4.4 hole 3: 1(0,0)
  round 4.9 hole 4.9: Un1(0,-26.4)
F.SilkS:
  lines w0.12: -2.31,-24.09 -2.31,-2.46 ; 2.31,-24.09 2.31,-2.46
B.CrtYd:
  lines w0.05: -2.95,-29.35 -2.95,-23.45 2.95,-23.45 2.95,-29.35 -2.95,-29.35
F.CrtYd:
  lines w0.05: -2.95,-29.35 -2.95,2.7 2.95,2.7 2.95,-29.35 -2.95,-29.35
F.Fab:
  circle w0.1: c0,-26.4 r2.2
  circle w0.1: c0,0 r2.2
  lines w0.1: -2.2,-26.4 -2.2,0 ; 2.2,-26.4 2.2,0
  text "'.Designator'" at -4.047,-14.04 h1

## SolderWire-2.5sqmm_1x01_D2.4mm_OD4.4mm_Relief2x [mm]
pads (3):
  rrect6% 4.4x4.4 hole 3: 1(0,0)
  round 4.9 hole 4.9: Un1(0,-26.4) Un2(0,-52.8)
F.SilkS:
  lines w0.12: -2.31,-24.09 -2.31,-2.46 ; 2.31,-24.09 2.31,-2.46
B.SilkS:
  lines w0.12: -2.31,-50.49 -2.31,-28.71 ; 2.31,-50.49 2.31,-28.71
B.CrtYd:
  lines w0.05: -2.95,-55.75 -2.95,-23.45 2.95,-23.45 2.95,-55.75 -2.95,-55.75
F.CrtYd:
  lines w0.05: -2.95,-55.75 -2.95,-49.85 2.95,-49.85 2.95,-55.75 -2.95,-55.75 ; -2.95,-29.35 2.95,-29.35 2.95,2.7 -2.95,2.7 -2.95,-29.35
B.Fab:
  circle w0.1: c0,-52.8 r2.2
  circle w0.1: c0,-26.4 r2.2
  lines w0.1: -2.2,-52.8 -2.2,-26.4 ; 2.2,-52.8 2.2,-26.4
F.Fab:
  circle w0.1: c0,-26.4 r2.2
  circle w0.1: c0,0 r2.2
  circle w0.1: c0,-52.8 r2.2
  lines w0.1: -2.2,-26.4 -2.2,0 ; 2.2,-26.4 2.2,0
  text "'.Designator'" at -4.047,-14.04 h1